# EAGLE library part RTE44024F (library FSAE Eletric)
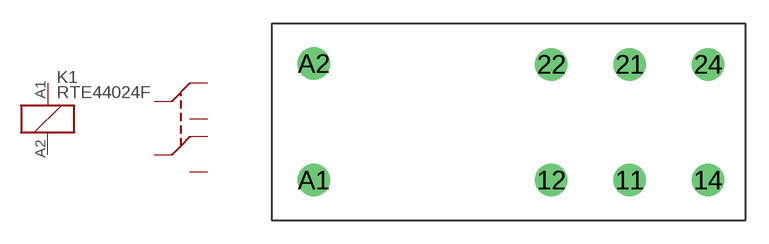
[diagram p50: symbol with the pads of RTE44024F; footprint RTE44024F]

Designator prefix K1; gates G$1=COIL G$2=DPDT

## RTE44024F  [RTE44024F]
11  G$2:C1
12  G$2:NC1
14  G$2:NO1
21  G$2:C2
22  G$2:NC2
24  G$2:NO2
A1  G$1:+  pas
A2  G$1:-  pas

## Footprint RTE44024F (pad centres in mm)
drill 1.4: 11 9.06,-3.75; 12 4.01,-3.75; 14 14.11,-3.75; 21 9.06,3.7; 22 4.01,3.7; 24 14.11,3.7; A1 -11.29,-3.75; A2 -11.29,3.75